# Altium footprint library Avia_Semiconductor_Footprints.PcbLib: 1 footprints
Each footprint in its own frame and in the unit in brackets; x right, y up, seen from the top. Pads: shape width x height; smd on the part's side, far side on the other; paste and mask are expansions set on the pad; w line width, h text height; cw(c..) or ccw(c..) is an arc to the next point about the centre after c.
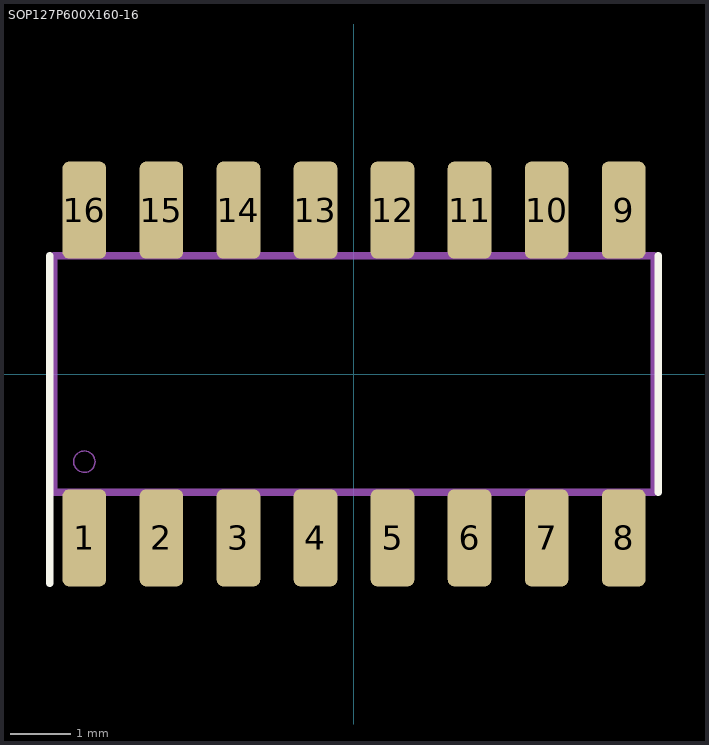
[diagram p0: the footprint, top view; thin cyan lines are the x and y axes]

## SOP127P600X160-16 [mm] "IPC-7351C ( SOP-16L  )"
height 1.6
pads (16):
  rrect30% 0.72x1.6 smd: 1(-4.445,-2.7) 2(-3.175,-2.7) 3(-1.905,-2.7) 4(-0.635,-2.7) 5(0.635,-2.7) 6(1.905,-2.7) 7(3.175,-2.7) 8(4.445,-2.7) 9(4.445,2.7) 10(3.175,2.7) 11(1.905,2.7) 12(0.635,2.7) 13(-0.635,2.7) 14(-1.905,2.7) 15(-3.175,2.7) 16(-4.445,2.7)
Top Overlay:
  lines w0.12: -5.015,-3.45 -5.015,1.95 ; 5.015,-1.95 5.015,1.95
Mechanical 11:
  lines w0.12: -4.95,-1.95 -4.95,1.95 4.95,1.95 4.95,-1.95 -4.95,-1.95
Mechanical 12:
  circle w0.025: c-4.445,-1.445 r0.177
  lines w0.025: -4.685,-3 -4.685,-1.95 ; -4.685,1.95 -4.685,3 -4.205,3 -4.205,1.95 ; -4.679,-3 -4.199,-3 ; -4.205,-3 -4.205,-1.95 ; -3.415,-3 -3.415,-1.95 ; -3.415,1.95 -3.415,3 -2.935,3 -2.935,1.95 ; -3.409,-3 -2.929,-3 ; -2.935,-3 -2.935,-1.95 ; -2.145,-3 -2.145,-1.95 ; -2.145,1.95 -2.145,3 -1.665,3 -1.665,1.95 ; -2.139,-3 -1.659,-3 ; -1.665,-3 -1.665,-1.95 ; -0.875,-3 -0.875,-1.95 ; -0.875,1.95 -0.875,3 -0.395,3 -0.395,1.95 ; -0.869,-3 -0.389,-3 ; -0.395,-3 -0.395,-1.95 ; 0.395,-3 0.395,-1.95 ; 0.395,1.95 0.395,3 0.875,3 0.875,1.95 ; 0.401,-3 0.881,-3 ; 0.875,-3 0.875,-1.95 ; 1.665,-3 1.665,-1.95 ; 1.665,1.95 1.665,3 2.145,3 2.145,1.95 ; 1.671,-3 2.151,-3 ; 2.145,-3 2.145,-1.95 ; 2.935,-3 2.935,-1.95 ; 2.935,1.95 2.935,3 3.415,3 3.415,1.95 ; 2.941,-3 3.421,-3 ; 3.415,-3 3.415,-1.95 ; 4.205,-3 4.205,-1.95 ; 4.205,1.95 4.205,3 4.685,3 4.685,1.95 ; 4.211,-3 4.691,-3 ; 4.685,-3 4.685,-1.95 ; -4.95,-1.95 4.95,-1.95 4.95,1.95 -4.95,1.95 -4.95,-1.95
Mechanical 16:
  text "Designator" at 0,0 h1.2
3D body "HX711.stp": height 1.6, standoff 0, extent -4.95,-3 4.95,3